# Altium footprint library PG-DSO-12-9.PcbLib: 1 footprints
Each footprint in its own frame and in the unit in brackets; x right, y up, seen from the top. Pads: shape width x height; smd on the part's side, far side on the other; paste and mask are expansions set on the pad; w line width, h text height; cw(c..) or ccw(c..) is an arc to the next point about the centre after c.
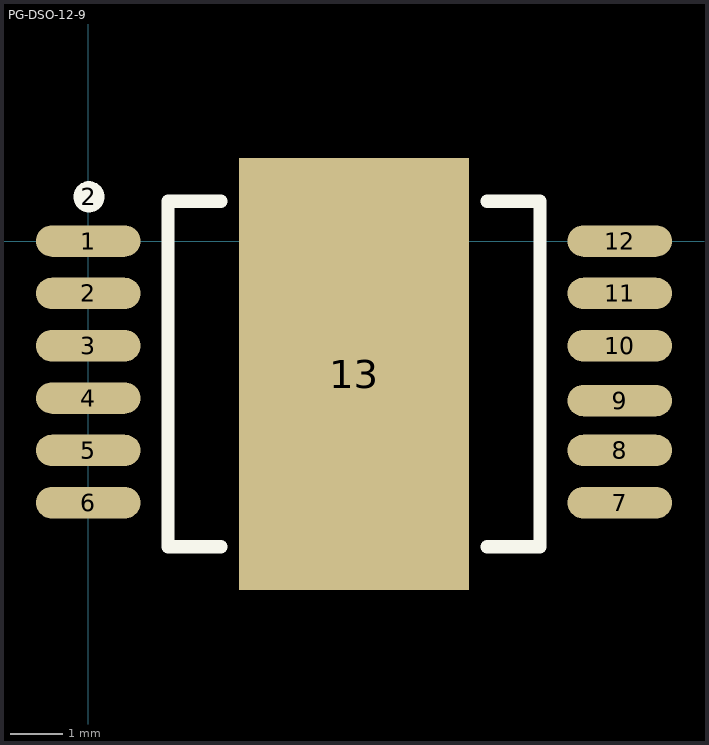
[diagram p0: the footprint, top view; thin cyan lines are the x and y axes]

## PG-DSO-12-9 [mm]
pads (14):
  oval 2x0.6 smd: 1(0,0) 2(0,-1) 3(0,-2) 4(0,-3) 5(0,-4) 6(0,-5) 7(10.16,-5) 8(10.16,-4) 9(10.16,-3.048) 10(10.16,-2) 11(10.16,-1) 12(10.16,0)
  round 0.6 on Top Overlay: 2(0.015,0.846)
  rect 4.4x8.255 smd: 13(5.08,-2.54)
Top Overlay:
  lines w0.254: 2.54,-5.842 1.524,-5.842 1.524,0.762 2.54,0.762 ; 7.62,-5.842 8.636,-5.842 8.636,0.762 7.62,0.762
3D body: height 2.56, standoff 0.01, extent -0.092,-6.44 10.252,1.36